# Altium schematic symbol library Amplifier_Buffer.SchLib: 7 symbols
Pins are listed as number, name and electrical type; pins without a type are passive.

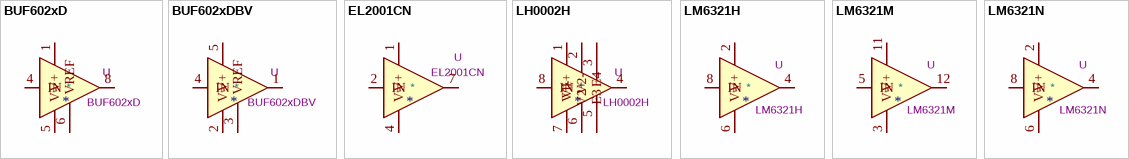
[diagram p0: symbols BUF602xD to LM6321N]

## BUF602xD
designator *  value BUF602xD  Reference: U
ki_keywords: buffer amplifier; ki_description: High-Speed, 1000 MHz, Closed-Loop Buffer, SOIC-8; ki_fp_filters: SOIC*3.9x4.9mm*P1.27mm*; Footprint: Package_SO:SOIC-8_3.9x4.9mm_P1.27mm; Datasheet: http://www.ti.com/lit/ds/symlink/buf602.pdf
pins: 1 V+, 2 NC hidden, 3 NC hidden, 4 IN, 5 V-, 6 VREF, 7 NC hidden, 8

## BUF602xDBV
designator *  value BUF602xDBV  Reference: U
ki_keywords: buffer amplifier; ki_description: High-Speed, 1000 MHz, Closed-Loop Buffer, SOT23-5; ki_fp_filters: SOT?23*; Footprint: Package_TO_SOT_SMD:SOT-23-5; Datasheet: http://www.ti.com/lit/ds/symlink/buf602.pdf
pins: 1, 2 V-, 3 VREF, 4 IN, 5 V+

## EL2001CN
designator *  value EL2001CN  Reference: U
ki_keywords: Monolithic high slew rate, buffer amplifier; ki_description: Monolithic high slew rate, buffer amplifier, DIP-8; ki_fp_filters: DIP*W7.62mm*; Footprint: Package_DIP:DIP-8_W7.62mm; Datasheet: http://www.datasheetlib.com/datasheet/677973/el2001_intersil.html#datasheet
pins: 1 V+, 2 IN, 3 NC hidden, 4 V-, 5 NC hidden, 6 NC hidden, 7, 8 NC hidden

## LH0002H
designator *  value LH0002H  Reference: U
ki_keywords: Buffer; ki_description: Wide-Band, High Current, Unity Gain Buffer Amplifier, TO-5-8; ki_fp_filters: TO?5*; Footprint: Package_TO_SOT_THT:TO-5-8; Datasheet: http://www.calogic.net/pdf/LH0002_Datasheet_Rev_A.pdf
pins: 1 V1+, 2 V2+, 3 E3, 4, 5 E4, 6 V2-, 7 V1-, 8 IN

## LM6321H
designator *  value LM6321H  Reference: U
ki_keywords: single buffer; ki_description: High Speed Buffer, TO-5-8; ki_fp_filters: TO?5*; Footprint: Package_TO_SOT_THT:TO-5-8; Datasheet: http://www.electronica60norte.com/mwfls/pdf/LM6221.pdf
pins: 1 NC hidden, 2 V+, 3 NC hidden, 4, 5 NC hidden, 6 V-, 7 NC hidden, 8 IN

## LM6321M
designator *  value LM6321M  Reference: U
ki_keywords: single buffer; ki_description: High Speed Buffer, SOIC-14; ki_fp_filters: SOIC*3.9x8.7mm*P1.27mm*; Footprint: Package_SO:SOIC-14_3.9x8.7mm_P1.27mm; Datasheet: http://www.electronica60norte.com/mwfls/pdf/LM6221.pdf
pins: 1 V- hidden, 2 V- hidden, 3 V-, 4 NC hidden, 5 IN, 6 V- hidden, 7 V- hidden, 8 V- hidden, 9 V- hidden, 10 NC hidden, 11 V+, 12, 13 V- hidden, 14 V- hidden

## LM6321N
designator *  value LM6321N  Reference: U
ki_keywords: single buffer; ki_description: High Speed Buffer, DIP-8; ki_fp_filters: DIP*W7.62mm*; Footprint: Package_DIP:DIP-8_W7.62mm; Datasheet: http://www.electronica60norte.com/mwfls/pdf/LM6221.pdf
pins: 1 NC hidden, 2 V+, 3 NC hidden, 4, 5 NC hidden, 6 V-, 7 NC hidden, 8 IN